# Altium schematic symbol library TLV3201AIDCKR.Schlib: 1 symbol
Pins are listed as number, name and electrical type; pins without a type are passive.

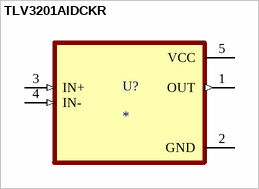
[diagram p0: symbol TLV3201AIDCKR]

## TLV3201AIDCKR
designator U?
5.5-V, high-speed, single push-pull comparator
pins: 1 OUT (out), 2 GND (power), 3 IN+ (in), 4 IN- (in), 5 VCC (power)